# EAGLE library part 66201211022 (library Wurth_Elektronik_Electromechanic_Wire_to_Board_Connectors_rev15c)
WR-MPC3 3.00mm Male Single Row Angled Header with Plastic Pegs, 12 Pins=>Code : Con_WTB_MPC3_1_PCB_66201211022 <http://katalog.we-online.de/media/thumbs2/eican/thb_Con_WTB_MPC3_1_PCB_6620xx11022_pf2.jpg> Details see: http://katalog.we-online.de/en/em/662_0xx_110_22 Created 2014-06-06, Karrer Zheng 2014 (C) Würth Elektronik
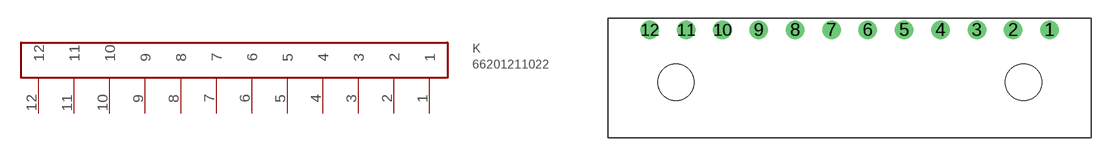
[diagram p358: symbol with the pads of 66201211022; footprint 66201211022]

Designator prefix K

## 66201211022  [66201211022]
1  1
2  2
3  3
4  4
5  5
6  6
7  7
8  8
9  9
10  10
11  11
12  12

## Footprint 66201211022 (pad centres in mm)
WR-MPC3 3.00mm Male Single Row Angled Header with Plastic Pegs, 12 Pins
drill 1.02: 1 1.5,0; 2 -1.5,0; 3 -4.5,0; 4 -7.5,0; 5 -10.5,0; 6 -13.5,0; 7 -16.5,0; 8 -19.5,0; 9 -22.5,0; 10 -25.5,0; 11 -28.5,0; 12 -31.5,0
hole 3 at -0.66,-4.32
hole 3 at -29.34,-4.32